# EAGLE library part 5223008-2 (library backplane)
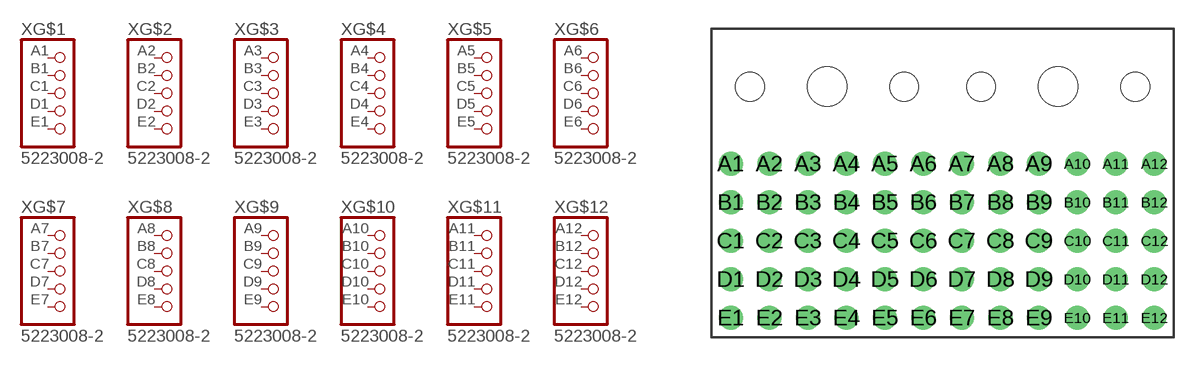
[diagram p0: symbol with the pads of 5223008-2; footprint 5223008-2]

Designator prefix X; gates G$1=PINHD5 G$2=PINHD5 G$3=PINHD5 G$4=PINHD5 G$5=PINHD5 G$6=PINHD5 G$7=PINHD5 G$8=PINHD5 G$9=PINHD5 G$10=PINHD5 G$11=PINHD5 G$12=PINHD5

## 5223008-2  [5223008-2]
A1  G$1:1  pas
A2  G$2:1  pas
A3  G$3:1  pas
A4  G$4:1  pas
A5  G$5:1  pas
A6  G$6:1  pas
A7  G$7:1  pas
A8  G$8:1  pas
A9  G$9:1  pas
A10  G$10:1  pas
A11  G$11:1  pas
A12  G$12:1  pas
B1  G$1:2  pas
B2  G$2:2  pas
B3  G$3:2  pas
B4  G$4:2  pas
B5  G$5:2  pas
B6  G$6:2  pas
B7  G$7:2  pas
B8  G$8:2  pas
B9  G$9:2  pas
B10  G$10:2  pas
B11  G$11:2  pas
B12  G$12:2  pas
C1  G$1:3  pas
C2  G$2:3  pas
C3  G$3:3  pas
C4  G$4:3  pas
C5  G$5:3  pas
C6  G$6:3  pas
C7  G$7:3  pas
C8  G$8:3  pas
C9  G$9:3  pas
C10  G$10:3  pas
C11  G$11:3  pas
C12  G$12:3  pas
D1  G$1:4  pas
D2  G$2:4  pas
D3  G$3:4  pas
D4  G$4:4  pas
D5  G$5:4  pas
D6  G$6:4  pas
D7  G$7:4  pas
D8  G$8:4  pas
D9  G$9:4  pas
D10  G$10:4  pas
D11  G$11:4  pas
D12  G$12:4  pas
E1  G$1:5  pas
E2  G$2:5  pas
E3  G$3:5  pas
E4  G$4:5  pas
E5  G$5:5  pas
E6  G$6:5  pas
E7  G$7:5  pas
E8  G$8:5  pas
E9  G$9:5  pas
E10  G$10:5  pas
E11  G$11:5  pas
E12  G$12:5  pas

## Footprint 5223008-2 (pad centres in mm)
drill 0.725: A1 -11,4; A2 -9,4; A3 -7,4; A4 -5,4; A5 -3,4; A6 -1,4; A7 1,4; A8 3,4; A9 5,4; A10 7,4; A11 9,4; A12 11,4; B1 -11,2; B2 -9,2; B3 -7,2; B4 -5,2; B5 -3,2; B6 -1,2; B7 1,2; B8 3,2; B9 5,2; B10 7,2; B11 9,2; B12 11,2; C1 -11,0; C2 -9,0; C3 -7,0; C4 -5,0; C5 -3,0; C6 -1,0; C7 1,0; C8 3,0; C9 5,0; C10 7,0; C11 9,0; C12 11,0; D1 -11,-2; D2 -9,-2; D3 -7,-2; D4 -5,-2; D5 -3,-2; D6 -1,-2; D7 1,-2; D8 3,-2; D9 5,-2; D10 7,-2; D11 9,-2; D12 11,-2; E1 -11,-4; E2 -9,-4; E3 -7,-4; E4 -5,-4; E5 -3,-4; E6 -1,-4; E7 1,-4; E8 3,-4; E9 5,-4; E10 7,-4; E11 9,-4; E12 11,-4
hole 2.05 at -6,8
hole 1.5 at -10,8
hole 1.5 at -2,8
hole 2.05 at 6,8
hole 1.5 at 10,8
hole 1.5 at 2,8